# EAGLE library part SP0256-AL2 (library speech)
General Instruments SP0256-AL2 Narrator(TM) vintage speech synthesizer IC. Radio Shack Cat 276-1784 (discontinued). Datasheet SP0256-AL2.zip <http://homepage.mac.com/michael_shimniok/Robot/SP0256-AL2.zip> Example implementations at www.Bot-Thoughts.com <http://www.bot-thoughts.com/search/label/SP0256-AL2>
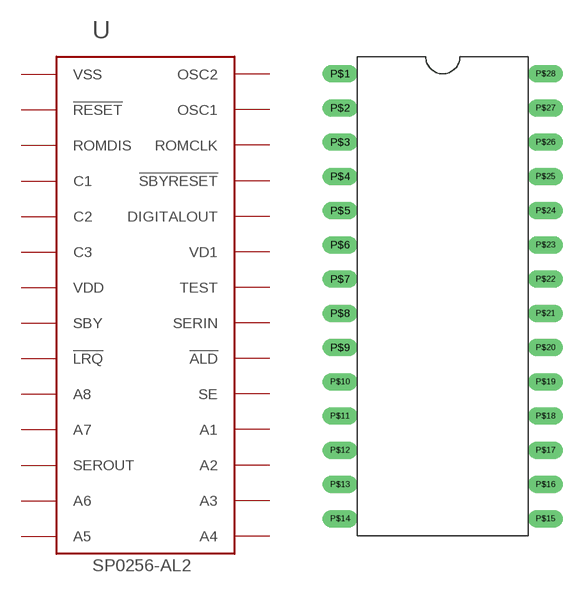
[diagram p0: symbol with the pads of DIL28-6; footprint DIL28-6]

Designator prefix -

## SP0256-AL2  [DIL28-6]
P$1  VSS  pwr
P$2  !RESET  in
P$3  ROMDIS
P$4  C1
P$5  C2
P$6  C3
P$7  VDD  pwr
P$8  SBY  out
P$9  !LRQ  out
P$10  A8
P$11  A7  in
P$12  SEROUT  out
P$13  A6  in
P$14  A5  in
P$15  A4  in
P$16  A3  in
P$17  A2  in
P$18  A1  in
P$19  SE
P$20  !ALD  in
P$21  SERIN  in
P$22  TEST
P$23  VD1  pwr
P$24  DIGITALOUT  out
P$25  !SBYRESET  in
P$26  ROMCLK  out
P$27  OSC1
P$28  OSC2

## Footprint DIL28-6 (pad centres in mm)
drill 0.8 long: P$1 -7.62,16.51; P$2 -7.62,13.97; P$3 -7.62,11.43; P$4 -7.62,8.89; P$5 -7.62,6.35; P$6 -7.62,3.81; P$7 -7.62,1.27; P$8 -7.62,-1.27; P$9 -7.62,-3.81; P$10 -7.62,-6.35; P$11 -7.62,-8.89; P$12 -7.62,-11.43; P$13 -7.62,-13.97; P$14 -7.62,-16.51; P$15 7.62,-16.51; P$16 7.62,-13.97; P$17 7.62,-11.43; P$18 7.62,-8.89; P$19 7.62,-6.35; P$20 7.62,-3.81; P$21 7.62,-1.27; P$22 7.62,1.27; P$23 7.62,3.81; P$24 7.62,6.35; P$25 7.62,8.89; P$26 7.62,11.43; P$27 7.62,13.97; P$28 7.62,16.51